# Altium schematic symbol library pyptec-Schlib_jp.SchLib: 316 symbols (part 4 of 7)
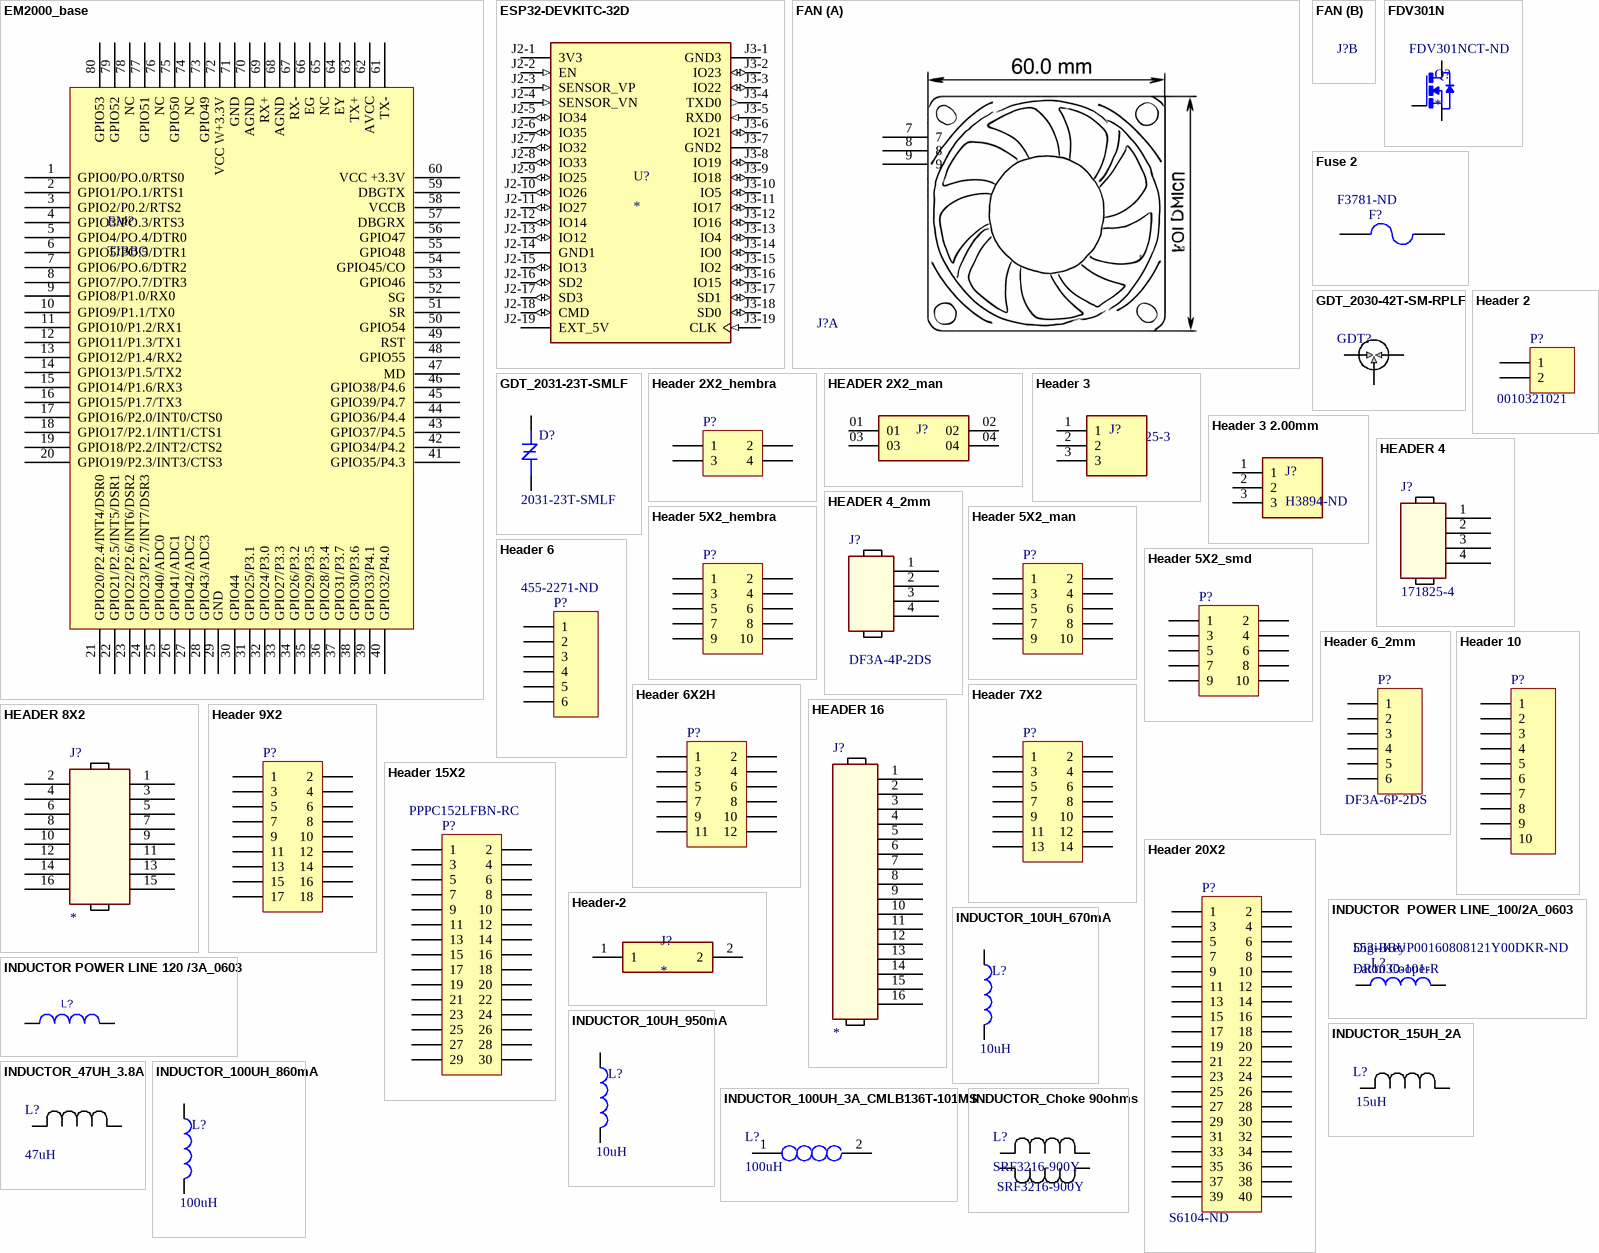
[diagram p13: symbols EM2000_base to INDUCTOR_Choke 90ohms]

## INDUCTOR_47UH_3.8A
designator L?, comment value 47uH  (hidden comment: SRR1210-470M)
47 µH Shielded Drum Core, Wirewound Inductor 3.8 A 72mOhm Max Nonstandard; Digi_Key_Part_Number: SRR1210-470MCT-ND; ComponentLink1Description: SRR1210-470M; ComponentLink1URL: https://www.digikey.com/en/products/detail/bourns-inc/SRR1210-470M/2562359; Link: https://www.digikey.com/en/products/detail/bourns-inc/SRR1210-470M/2562359; Price: 1,21; JLCPCB Part: C2041371
footprint IND_BOURNS_SRR1210
pins: 1, 2

## INDUCTOR_100UH_3A_CMLB136T-101MS
designator L?, comment value 100uH  (hidden comment: CMLB136T-101MS)
100 µH Shielded Inductor 3 A 198mOhm Max Nonstandard; Digi_Key_Part_Number: 2037-CMLB136T-101MSCT-ND; ComponentLink1Description: FIXED IND 100UH 3A 198 OHM SMD; ComponentLink1URL: https://www.digikey.com/en/products/detail/delta-electronics-cyntec/CMLB136T-101MS/9761303; Link: https://www.digikey.com/en/products/detail/delta-electronics-cyntec/CMLB136T-101MS/9761303; Price: 2,10; LCSC Part: C408533; Mouser Part: 673-BMRF131360101MA1; Price JLCPCB: 0,58
footprint CMLB136T101MS
pins: 1, 2

## INDUCTOR_100UH_860mA
designator L?, comment value 100uH  (hidden comment: 283-DR1030-101-RCT-ND)
100 µH Shielded Drum Core, Wirewound Inductor 860 mA 450mOhm Max Nonstandard; Digi_Key_Part_Number: 308-1969-1-ND; Link: https://www.digikey.com/en/products/detail/sumida-america-inc/CDRH3D14-HPNP-100NC/3946967; ComponentLink1Description: FIXED IND 100UH 860MA 450MOHM SM; ComponentLink1URL: https://www.digikey.com/en/products/detail/sumida-america-inc/CDRH3D14-HPNP-100NC/3946967; Price: 0,56; LCSC Part: C2453945; Mouser Part: 851-CDRH3D14PNP100NC
footprint bobina
pins: 1, 2

## INDUCTOR_Choke 90ohms
designator L?, comment SRF3216-900Y
2 Line Common Mode Choke Surface Mount 90 Ohms @ 100 MHz 400mA DCR 300mOhm; Digi_Key_Part_Number: SRF3216-900YCT-ND; Link: https://www.digikey.com/en/products/detail/bourns-inc/SRF3216-900Y/1969857; ComponentLink1Description: SRF3216-900Y; ComponentLink1URL: https://www.digikey.com/en/products/detail/bourns-inc/SRF3216-900Y/1969857; Price: 0.66; Value: SRF3216-900Y
footprint IND_BOURNS_SRF3216-L
pins: 1, 2, 3, 4

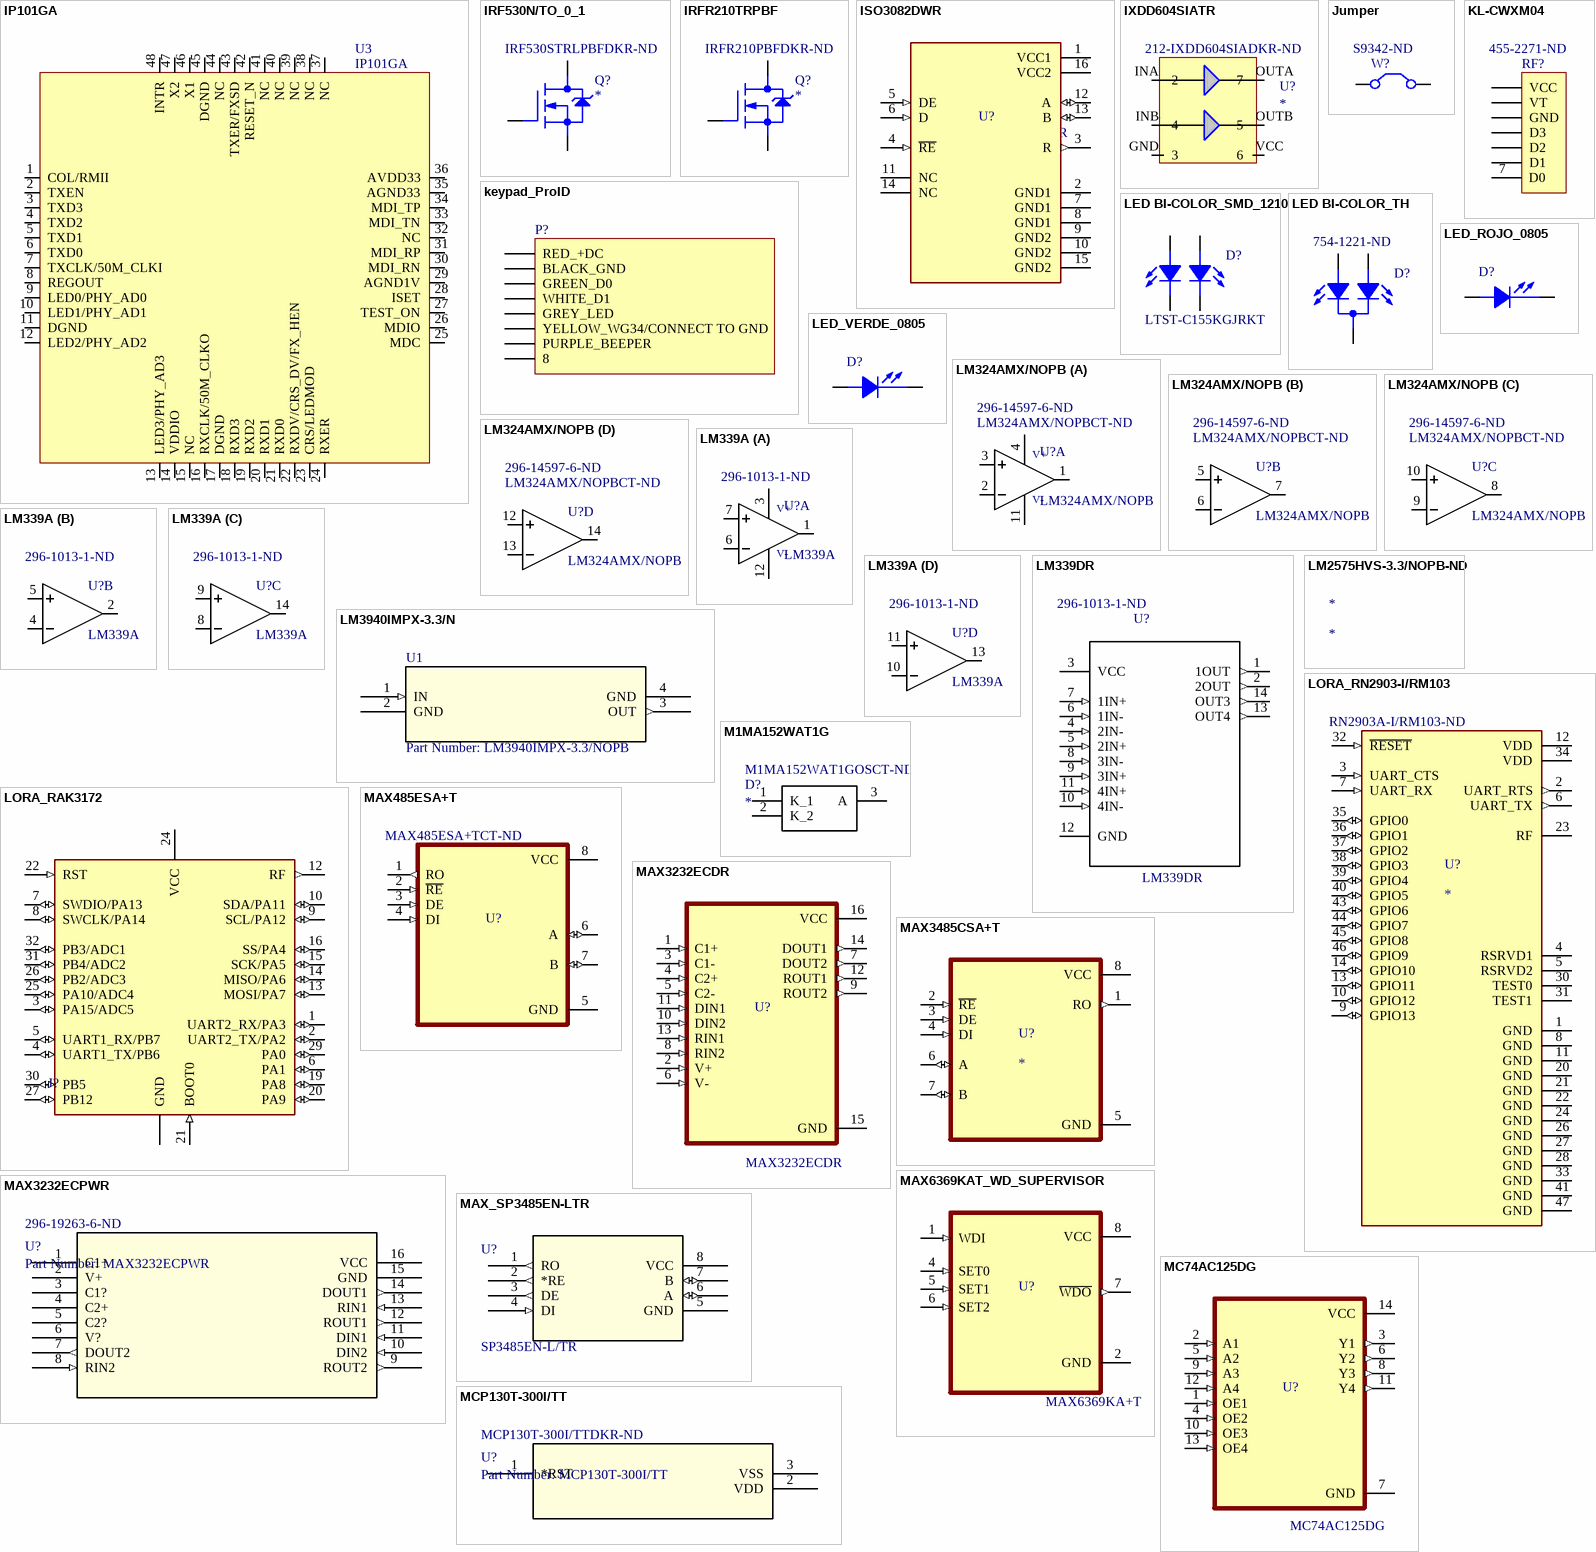
[diagram p5: symbols IP101GA to MCP130T-300I/TT]

## IP101GA
designator U3
Single Port 10/100 MII/RMII/TP/Fiber  Fast Ethernet Transceiver
footprint LQFP48(0.5/9.0)
pins: 1 COL/RMII, 2 TXEN, 3 TXD3, 4 TXD2, 5 TXD1, 6 TXD0, 7 TXCLK/50M_CLKI, 8 REGOUT, 9 LED0/PHY_AD0, 10 LED1/PHY_AD1, 11 DGND, 12 LED2/PHY_AD2, 13 LED3/PHY_AD3, 14 VDDIO, 15 NC, 16 RXCLK/50M_CLKO, 17 DGND, 18 RXD3, 19 RXD2, 20 RXD1, 21 RXD0, 22 RXDV/CRS_DV/FX_HEN, 23 CRS/LEDMOD, 24 RXER, 25 MDC, 26 MDIO, 27 TEST_ON, 28 ISET, 29 AGND1V, 30 MDI_RN, 31 MDI_RP, 32 NC, 33 MDI_TN, 34 MDI_TP, 35 AGND33, 36 AVDD33, 37 NC, 38 NC, 39 NC, 40 NC, 41 NC, 42 RESET_N, 43 TXER/FXSD, 44 NC, 45 DGND, 46 X1, 47 X2, 48 INTR

## IRF530N/TO_0_1
designator Q?  Supplier Part Number 1: IRF530STRLPBFDKR-ND
Canal N Montaje en superficie 100V 14 A (Tc) 3.7W (Ta), 88W (Tc) D2PAK; Manufacturer: Vishay Siliconix; Manufacturer Part Number: IRF530STRLPBF; Rise Time: 34ns; Rds On Max: 160mR; Input Capacitance: 670pF; Nominal Vgs: 2V; Continuous Drain Current (ID): 14A; Gate to Source Voltage (Vgs): 20V; Fall Time: 24ns; Turn-Off Delay Time: 23ns; Turn-On Delay Time: 10ns; Number of Elements: 1; Element Configuration: Single; Supplier 1: Digi-Key; Stock 1: 843; Pricing 1: 1=1.62, 10=1.453, 100=1.0689 (USD); Mount: Surface Mount; Case/Package: TO-263-3; Number of Pins: 3; Weight: 0.068654oz; Min Operating Temperature: -55°C; Max Operating Temperature: 175°C; Packaging: Tape and Reel; Package Quantity: 800; Drain to Source Voltage (Vdss): 100V; Max Power Dissipation: 3.7W; Drain to Source Breakdown Voltage: 100V; Drain to Source Resistance: 160mR; Power Dissipation: 3.7W; Number of Channels: 1; Length: 10.67mm; Height: 4.83mm; Width: 9.65mm; Radiation Hardening: No; REACH SVHC: Unknown; ComponentLink1URL: http://www.vishay.com/docs/91020/sihf530s.pdf?src-supplier=Avnet+Europe; ComponentLink1Description: http://www.vishay.com/docs/91020/sihf530s.pdf?src-supplier=Avnet+Europe; ComponentLink2URL: http://www.mouser.com/ds/2/427/sihf530s-896361.pdf?src-supplier=Mouser; ComponentLink2Description: http://www.mouser.com/ds/2/427/sihf530s-896361.pdf?src-supplier=Mouser; ComponentLink3URL: http://www.vishay.com/docs/91020/sihf530s.pdf?src-supplier=Digi-Key; ComponentLink3Description: http://www.vishay.com/docs/91020/sihf530s.pdf?src-supplier=Digi-Key
footprint TO263 - mosfet
pins: 1, 2, 3

## IRFR210TRPBF
designator Q?  Supplier Part Number 1: IRFR210PBFDKR-ND
Canal N Montaje en superficie 200V 2.6 A (Tc) 2.5W (Ta), 25W (Tc) D-Pak; Manufacturer: Vishay; Manufacturer Part Number: IRFR210TRPBF; Rds On Max: 1.5R; Input Capacitance: 140pF; Rise Time: 17ns; Continuous Drain Current (ID): 2.6A; Gate to Source Voltage (Vgs): 20V; Fall Time: 8.9ns; Turn-Off Delay Time: 14ns; Turn-On Delay Time: 8.2ns; Number of Elements: 1; Element Configuration: Single; Supplier 1: Digi-Key; Stock 1: 584; Pricing 1: 1=0.91, 10=0.81, 100=0.5769, 500=0.48896, 1000=0.39832 (USD); Mount: Surface Mount; Case/Package: DPAK; Number of Pins: 3; Weight: 0.050717oz; Contact Plating: Tin,Matte; Min Operating Temperature: -55°C; Max Operating Temperature: 150°C; Package Quantity: 1; Packaging: Tape and Reel; Drain to Source Voltage (Vdss): 200V; Max Power Dissipation: 2.5W; Drain to Source Breakdown Voltage: 200V; Drain to Source Resistance: 1.5R; Power Dissipation: 2.5W; Number of Channels: 1; On-State Resistance: 1.5R; Length: 6.73mm; Height: 2.39mm; Width: 6.22mm; Radiation Hardening: No; Lead Free: Lead Free; ComponentLink1URL: http://www.mouser.com/ds/2/427/sihfr210-61757.pdf?src-supplier=Mouser; ComponentLink1Description: http://www.mouser.com/ds/2/427/sihfr210-61757.pdf?src-supplier=Mouser; ComponentLink2URL: http://www.vishay.com/docs/91268/sihfr210.pdf?src-supplier=Digi-Key; ComponentLink2Description: http://www.vishay.com/docs/91268/sihfr210.pdf?src-supplier=Digi-Key; ComponentLink3URL: http://www.vishay.com/docs/91268/sihfr210.pdf?src-supplier=Future+Electronics; ComponentLink3Description: http://www.vishay.com/docs/91268/sihfr210.pdf?src-supplier=Future+Electronics
footprint TO252AB/DPAK
pins: 1, 2, 3

## ISO3082DWR
designator U?
200-Kbps, half-duplex, 2.5-kVrms isolated RS-485 & RS-422 transceiver; Digi_Key_Part_Number: 296-37891-1-ND; MF: Texas Instruments; Purchase-URL: https://pricing.snapeda.com/search/part/ISO3082DWR/?ref=eda; Package: SOIC-16 Texas Instruments; SnapEDA_Link: https://www.snapeda.com/parts/ISO3082DWR/Texas+Instruments/view-part/?ref=snap; Check_prices: https://www.snapeda.com/parts/ISO3082DWR/Texas+Instruments/view-part/?ref=eda; Price: 4,63; MP: ISO3082DWR; Availability: In Stock; Supplier 1: Digi-Key; Supplier 2: Digi-Key; Link: https://www.digikey.com/es/products/detail/ISO3082DWR/296-37891-6-ND/4899999?utm_campaign=buynow&utm_medium=aggregator&curr=usd&utm_source=octopart; ComponentLink1Description: ISO RS485/422 0.2MBPS 2.5KVRMS; ComponentLink1URL: https://www.digikey.com/es/products/detail/texas-instruments/ISO3082DWR/1898638; Supplier Part Number 2: 296-37891-1-ND; Supplier Part Number 1: 296-37891-6-ND; Value: ISO3082DWR
footprint SOIC127P1030X265-16N
pins: 1 VCC1 (power), 2 GND1 (power), 3 R (out), 4 ~{RE} (in), 5 DE (in), 6 D (in), 7 GND1 (power), 8 GND1 (power), 9 GND2 (power), 10 GND2 (power), 11 NC, 12 A (io), 13 B (io), 14 NC, 15 GND2 (power), 16 VCC2 (power)

## IXDD604SIATR
designator U?  Supplier Part Number 1: 212-IXDD604SIADKR-ND
Nivel bajo Gate Driver IC No inversor 8-SOIC; Manufacturer: Ixys Clare; Manufacturer Part Number: IXDD604SIATR; Rise Time: 9ns; Max Supply Voltage: 35V; Min Supply Voltage: 4.5V; Output Current: 4A; Number of Outputs: 2; Propagation Delay: 50ns; Fall Time: 8ns; Operating Supply Current: 10uA; Supplier 1: Digi-Key; Stock 1: 2000; Pricing 1: 1=1.76, 10=1.583, 25=1.4936, 100=1.1948, 250=1.04544, 500=1.01558, 1000=0.80649 (USD); Mount: Surface Mount; Case/Package: SOIC; Number of Pins: 8; Weight: 0.019048oz; Min Operating Temperature: -40°C; Max Operating Temperature: 125°C; Packaging: Tape and Reel; Package Quantity: 2000; Max Output Current: 4A; Number of Drivers: 2; Lead Free: Lead Free; ComponentLink1URL: http://www.ixysic.com/home/pdfs.nsf/www/IXD_604.pdf/file/IXD_604.pdf?src-supplier=Digi-Key; ComponentLink1Description: http://www.ixysic.com/home/pdfs.nsf/www/IXD_604.pdf/file/IXD_604.pdf?src-supplier=Digi-Key
footprint *SOIC127P600X134-8N
pins: GND 3 (power), INA 2, INB 4, OUTA 7, OUTB 5, VCC 6 (power)

## Jumper
designator W?, comment S9342-ND
2 (1 x 2) Conector de derivación de posiciones Parte superior abierta 0.100" (2.54mm) Oro; Published: 24-Mar-1999; LatestRevisionDate: 17-Jul-2002; LatestRevisionNote: Re-released for DXP Platform.; PackageReference: RAD-0.2; Publisher: Altium Limited; PackageDescription: Radial Cap, Thru-Hole; 2 Leads; 0.2 in Pin Spacing; Supplier 1: Digi-Key; Link: https://www.digikey.com/es/products/detail/SPC02SXCN-RC/S9342-ND/2618267?utm_campaign=buynow&utm_medium=aggregator&curr=usd&utm_source=octopart; Digi_Key_Part_Number: S9342-ND; ComponentLink1Description: CONN JUMPER SHORTING .100" GOLD; ComponentLink1URL: https://www.digikey.com/es/products/detail/sullins-connector-solutions/SPC02SXCN-RC/2618267?s=N4IgTCBcDaIMoE4DMAWMBaAcgERAXQF8g; Supplier Part Number 1: S9342-ND
footprint RAD-0.2 (Radial Cap, Thru-Hole; 2 Leads; 0.2 in Pin Spacing)
pins: 1 C1, 2 C2

## keypad_ProID
designator P?
Header, 8-Pin; LatestRevisionDate: 17-Jul-2002; LatestRevisionNote: Re-released for DXP Platform.; Publisher: Altium Limited
footprint keypad (Connector; Header; 8 Position)
pins: 1 RED_+DC, 2 BLACK_GND, 3 GREEN_D0, 4 WHITE_D1, 5 GREY_LED, 6 YELLOW_WG34/CONNECT TO GND, 7 PURPLE_BEEPER, 8

## KL-CWXM04
designator RF?  Supplier Part Number 1: 455-2271-ND
RF super heterodyne 315mhz rf wireless transmitter and receiver KL-CWXM04-Pin; Manufacturer: JST; Manufacturer Part Number: B6BXHA(LF)(SN); Contact Resistance: 20mR; Current Rating: 3A; Voltage Rating (AC): 250V; Number of Positions: 6; Insulation Resistance: 1GR; Connector Type: Male Pin; Wire/Cable Gauge: 22AWG; Pitch: 2.5mm; LatestRevisionDate: 17-Jul-2002; LatestRevisionNote: Re-released for DXP Platform.; Publisher: Altium Limited; Supplier 1: Digi-Key; Stock 1: 28709; Pricing 1: 1=0.27, 10=0.258, 100=0.1808, 500=0.15494, 1000=0.12912, 5000=0.11068, 10000=0.1033 (USD); Mount: Through Hole; Contact Plating: Tin,Lead,Copper; Contact Material: Brass; Color: Natural; Housing Color: White; Housing Material: Polyamide; Min Operating Temperature: -25°C; Max Operating Temperature: 85°C; Package Quantity: 500; Packaging: Bulk; Termination: Press-Fit; Number of Rows: 1; Voltage Rating: 250V; Max Current Rating: 3A; Number of Contacts: 6; Max Voltage Rating (AC): 250V; Max Voltage Rating (DC): 250V; Orientation: Straight; Length: 17.4mm; Depth: 5.75mm; Lead Pitch: 2.5mm; REACH SVHC: No SVHC; Lead Free: Lead Free; ComponentLink1URL: https://www.verical.com/server-webapp/html/getDatasheet?partID=424647&src-supplier=Verical; ComponentLink1Description: https://www.verical.com/server-webapp/html/getDatasheet?partID=424647&src-supplier=Verical; ComponentLink2URL: http://www.rapidonline.com/pdf/523653.pdf?src-supplier=Rapid+Electronics; ComponentLink2Description: http://www.rapidonline.com/pdf/523653.pdf?src-supplier=Rapid+Electronics; ComponentLink3URL: https://www.verical.com/server-webapp/html/getDatasheet?partID=641012&src-supplier=Verical; ComponentLink3Description: https://www.verical.com/server-webapp/html/getDatasheet?partID=641012&src-supplier=Verical; ComponentLink4URL: http://www1.futureelectronics.com/doc/JST/B6B-XH-A(LF)(SN).pdf?src-supplier=Future+Electronics; ComponentLink4Description: http://www1.futureelectronics.com/doc/JST/B6B-XH-A(LF)(SN).pdf?src-supplier=Future+Electronics; ComponentLink5URL: http://www.jst-mfg.com/product/pdf/eng/eXH.pdf?src-supplier=Digi-Key; ComponentLink5Description: http://www.jst-mfg.com/product/pdf/eng/eXH.pdf?src-supplier=Digi-Key
footprint HDR1X7 (Connector; Header; 6 Position)
pins: 1 VCC, 2 VT, 3 GND, 4 D3, 5 D2, 6 D1, 7 D0

## LED BI-COLOR_SMD_1210
designator D?, comment value LTST-C155KGJRKT  (hidden comment: 160-1409-1-ND)
Verde, rojo Verde de 571nm, rojo de 631nm Indicación led: discreta Verde de 2V, rojo de 2V 1210 (3225 métrico); Manufacturer: Kingbright; Manufacturer Part Number: WP3VEGW; Color: Green,Red; Lens Color: White; Luminous Intensity: 40mcd; Viewing Angle: 60°; Lens Style: Dome,Diffused,Round; Dominant Wavelength: 625nm; Test Current: 20mA; Mount: Through Hole; Case/Package: Radial; Number of Pins: 1; Min Operating Temperature: -40°C; Max Operating Temperature: 85°C; Package Quantity: 500; Packaging: Bulk; Forward Voltage: 2V; Illumination Color: Green,Red; Height: 5mm; Width: 4mm; Lead Free: Lead Free; Supplier 1: Digi-Key; ComponentLink2Description: LED GREEN/RED CLEAR CHIP SMD; ComponentLink2URL: https://www.digikey.com/es/products/detail/liteon/LTST-C155KGJRKT/386767?s=N4IgTCBcDaIIwDYAMBaOAWJBONKByAIiALoC%2BQA; Digi_Key_Part_Number: 160-1409-1-ND; Link: https://www.digikey.com/es/products/detail/liteon/LTST-C155KGJRKT/386767?s=N4IgTCBcDaIIwDYAMBaOAWJBONKByAIiALoC%2BQA; Supplier Part Number 1: 160-1409-6-ND
footprint LED_LTST-C155GEKT
pins: 1, 2, 3, 4

## LED BI-COLOR_TH
designator D?, comment 754-1221-ND
Verde, rojo Verde de 568nm, rojo de 617nm Indicación led: discreta Verde de 2.2V, rojo de 2V Radial - 3 conductores; Manufacturer: Kingbright; Manufacturer Part Number: WP3VEGW; Color: Green,Red; Lens Color: White; Luminous Intensity: 40mcd; Viewing Angle: 60°; Lens Style: Dome,Diffused,Round; Dominant Wavelength: 625nm; Test Current: 20mA; Supplier 1: Digi-Key; Stock 1: 32286; Pricing 1: 1=0.58, 10=0.417, 100=0.272, 500=0.1955, 1000=0.153, 2500=0.14025, 5000=0.1275, 10000=0.119, 25000=0.11475 (USD); Mount: Through Hole; Case/Package: Radial; Number of Pins: 1; Min Operating Temperature: -40°C; Max Operating Temperature: 85°C; Package Quantity: 500; Packaging: Bulk; Forward Voltage: 2V; Illumination Color: Green,Red; Height: 5mm; Width: 4mm; Lead Free: Lead Free; ComponentLink1Description: LED GREEN/RED DIFFUSED T-1 T/H; ComponentLink1URL: https://www.digikey.com/es/products/detail/kingbright/WP3VEGW/1747620?s=N4IgTCBcDaIOwFYAsBaAjGMaUDkAiIAugL5A; Digi_Key_Part_Number: 754-1221-ND; Link: https://www.digikey.com/es/products/detail/kingbright/WP3VEGW/1747620?s=N4IgTCBcDaIOwFYAsBaAjGMaUDkAiIAugL5A; Supplier Part Number 1: 754-1221-ND
footprint LED BI-COLOUR
pins: 1, 2, 3

## LED_ROJO_0805
designator D?, comment LTST-C171KRKT  (value not drawn)
Rojo 631nm Indicación led: discreta 2V 0805 (2012 métrico); Digi_Key_Part_Number: 160-1427-1-ND; Value: LED RED; Link: https://www.digikey.com/es/products/detail/liteon/LTST-C171KRKT/386801; Price: 0,15; LCSC Part: C284871; Mouser Part: 859-LTST-C171KRKT; Price JLCPCB: 0,02; ComponentLink1Description: LED RED CLEAR SMD 0805; ComponentLink1URL: https://www.digikey.com/es/products/detail/liteon/LTST-C171KRKT/386801
footprint SM/D_0805_21_led
pins: 1, 2

## LED_VERDE_0805
designator D?, comment LTST-C171GKT  (value not drawn)
Verde 569nm Indicación led: discreta 2.1V 0805 (2012 métrico); Digi_Key_Part_Number: 160-1423-1-ND; Value: LED GREEN; Link: https://www.digikey.com/es/products/detail/liteon/LTST-C171GKT/386793; Price: 0,36; LCSC Part: C913075; Mouser Part: 859-LTST-C171GKT; Price JLCPCB: 0,02; ComponentLink1Description: LED GREEN CLEAR CHIP SMD 0805; ComponentLink1URL: https://www.digikey.com/es/products/detail/liteon/LTST-C171GKT/386793
footprint SM/D_0805_21_led - VERDE
pins: 1, 2

## LM324AMX/NOPB
designator U?  Supplier Part Number 1: LM324AMX/NOPBCT-ND  Supplier Part Number 2: 296-14597-6-ND
Low Power Quad Operational Amplifier 14-SOIC 0 to 70; Manufacturer: TI National Semiconductor; MF: Texas Instruments; Min Dual Supply Voltage: 1.5V; Slew Rate: 0.5V/µs; Min Supply Voltage: 3V; Max Supply Voltage: 32V; Max Dual Supply Voltage: 16V; Voltage Gain: 100dB; Max Power Dissipation: 800mW; Unity Gain Bandwidth Product: 1MHz; Common Mode Rejection Ratio: 65dB; Number of Channels: 4; Output Current: 40mA; Input Offset Voltage (Vos): 3mV; Input Bias Current: 100nA; Max Supply Current: 1.2mA; Nominal Supply Current: 1.5mA; Operating Supply Current: 1.4mA; Output Current per Channel: 60mA; Digi-Key_Purchase_URL: https://www.digikey.com/product-detail/en/texas-instruments/LM324AMX-NOPB/LM324AMX-NOPBCT-ND/1010531?utm_source=snapeda&utm_medium=aggregator&utm_campaign=symbol; Digi-Key_Part_Number: LM324AMX/NOPBCT-ND; MP: LM324AMX/NOPB; Package: SOIC-14 Texas Instruments; SnapEDA_Link: https://www.snapeda.com/parts/LM324AMX/NOPB/Texas%20Instruments/view-part/?ref=snap; Value: *; Supplier 1: Digi-Key; Manufacturer Part Number: LM324AMX/NOPB; Stock 1: 86609; Pricing 1: 1=1.05, 10=0.936, 100=0.7297, 500=0.60276, 1000=0.47586 (USD); Mount: Surface Mount; Case/Package: SOIC; Number of Pins: 14; Min Operating Temperature: 0°C; Max Operating Temperature: 70°C; Packaging: Tape and Reel; Operating Supply Voltage: 16V; Dual Supply Voltage: 3V; Bandwidth: 1MHz; Gain Bandwidth Product: 1MHz; Number of Amplifiers: 4; Power Supply Rejection Ratio (PSRR): 65dB; Number of Elements: 4; Power Dissipation: 800mW; Package Quantity: 2500; Number of Circuits: 4; Length: 8.64mm; Height: 1.45mm; Width: 3.91mm; Radiation Hardening: No; REACH SVHC: No SVHC; Lead Free: Lead Free; ComponentLink1URL: http://www.jameco.com/Jameco/Products/ProdDS/1267647.pdf?src-supplier=Jameco; ComponentLink1Description: http://www.jameco.com/Jameco/Products/ProdDS/1267647.pdf?src-supplier=Jameco; ComponentLink2URL: http://www.ti.com/lit/ds/symlink/lm124-n.pdf?src-supplier=Avnet; ComponentLink2Description: http://www.ti.com/lit/ds/symlink/lm124-n.pdf?src-supplier=Avnet; ComponentLink3URL: http://www.ti.com/lit/ds/symlink/lm124-n.pdf?src-supplier=Digi-Key; ComponentLink3Description: http://www.ti.com/lit/ds/symlink/lm124-n.pdf?src-supplier=Digi-Key; ComponentLink4URL: http://www.farnell.com/datasheets/2001690.pdf?src-supplier=Farnell; ComponentLink4Description: http://www.farnell.com/datasheets/2001690.pdf?src-supplier=Farnell; Supplier 2: Digi-Key; Stock 2: 13590; Pricing 2: 1=0.4, 10=0.302, 100=0.1483, 500=0.12854, 1000=0.09888 (USD); Contact Plating: Gold; ComponentLink5URL: http://www.ti.com/general/docs/lit/getliterature.tsp?genericPartNumber=LM124&&fileType=pdf&src-supplier=Avnet; ComponentLink5Description: http://www.ti.com/general/docs/lit/getliterature.tsp?genericPartNumber=LM124&&fileType=pdf&src-supplier=Avnet; ComponentLink6URL: http://www.farnell.com/datasheets/1840878.pdf?src-supplier=Element14; ComponentLink6Description: http://www.farnell.com/datasheets/1840878.pdf?src-supplier=Element14; ComponentLink7URL: http://www.farnell.com/datasheets/1877076.pdf?src-supplier=Element14; ComponentLink7Description: http://www.farnell.com/datasheets/1877076.pdf?src-supplier=Element14; ComponentLink8URL: http://www.ti.com/lit/ds/symlink/lm224.pdf?src-supplier=Digi-Key; ComponentLink8Description: http://www.ti.com/lit/ds/symlink/lm224.pdf?src-supplier=Digi-Key; ComponentLink9URL: http://www.jameco.com/Jameco/Products/ProdDS/902590.pdf?src-supplier=Jameco; ComponentLink9Description: http://www.jameco.com/Jameco/Products/ProdDS/902590.pdf?src-supplier=Jameco; ComponentLink10URL: http://www.farnell.com/datasheets/1768103.pdf?src-supplier=Farnell; ComponentLink10Description: http://www.farnell.com/datasheets/1768103.pdf?src-supplier=Farnell
footprint SOIC127P600X175-14N
part A pins: 1, 2, 3, 4 (power), 11 (power)
part B pins: 5, 6, 7
part C pins: 8, 9, 10
part D pins: 12, 13, 14
part A text: V+; V-

## LM339A
designator U?  Supplier Part Number 1: 296-1013-1-ND
Low Power Quad Operational Amplifier 14-SOIC 0 to 70; Manufacturer Part Number: LM339DR; MF: Texas Instruments; MP: LM324AMX/NOPB; Voltage Gain: 106.02dB; Min Supply Voltage: 2V; Max Supply Voltage: 30V; Min Dual Supply Voltage: 1V; Max Dual Supply Voltage: 15V; Nominal Supply Current: 2mA; Number of Elements: 4; Max Supply Current: 500uA; Input Bias Current: 250nA; Output Current per Channel: 6mA; Input Offset Voltage (Vos): 5mV; Response Time: 1.3us; Output Current: 20mA; Quiescent Current: 2.5mA; Output Type: TTL; Digi-Key_Purchase_URL: https://www.digikey.com/product-detail/en/texas-instruments/LM324AMX-NOPB/LM324AMX-NOPBCT-ND/1010531?utm_source=snapeda&utm_medium=aggregator&utm_campaign=symbol; Digi-Key_Part_Number: LM324AMX/NOPBCT-ND; Package: SOIC-14 Texas Instruments; SnapEDA_Link: https://www.snapeda.com/parts/LM324AMX/NOPB/Texas%20Instruments/view-part/?ref=snap; Value: *; Supplier 1: Digi-Key; Manufacturer: Texas Instruments; Stock 1: 19352; Pricing 1: 1=0.39, 10=0.295, 100=0.1452, 500=0.12586, 1000=0.09682 (USD); Mount: Surface Mount; Case/Package: SOIC; Number of Pins: 14; Weight: 0.004318oz; Contact Plating: Gold; Min Operating Temperature: 0°C; Max Operating Temperature: 70°C; Packaging: Tape and Reel; Package Quantity: 2500; Number of Channels: 4; Max Input Current: 250nA; Radiation Hardening: No; Lead Free: Lead Free; REACH SVHC: No SVHC; ComponentLink1URL: http://www.ti.com/lit/ds/symlink/lm139a.pdf?src-supplier=Avnet; ComponentLink1Description: http://www.ti.com/lit/ds/symlink/lm139a.pdf?src-supplier=Avnet; ComponentLink2URL: https://www.verical.com/server-webapp/html/getDatasheet?partID=242797&src-supplier=Verical; ComponentLink2Description: https://www.verical.com/server-webapp/html/getDatasheet?partID=242797&src-supplier=Verical; ComponentLink3URL: http://www.farnell.com/datasheets/1874704.pdf?src-supplier=Element14; ComponentLink3Description: http://www.farnell.com/datasheets/1874704.pdf?src-supplier=Element14; ComponentLink4URL: http://www.ti.com/general/docs/lit/getliterature.tsp?genericPartNumber=LM339&&fileType=pdf&src-supplier=Element14; ComponentLink4Description: http://www.ti.com/general/docs/lit/getliterature.tsp?genericPartNumber=LM339&&fileType=pdf&src-supplier=Element14; ComponentLink5URL: http://www.ti.com/lit/ds/symlink/lm139a.pdf?src-supplier=Digi-Key; ComponentLink5Description: http://www.ti.com/lit/ds/symlink/lm139a.pdf?src-supplier=Digi-Key; ComponentLink6URL: http://www.jameco.com/Jameco/Products/ProdDS/902741.pdf?src-supplier=Jameco; ComponentLink6Description: http://www.jameco.com/Jameco/Products/ProdDS/902741.pdf?src-supplier=Jameco; ComponentLink7URL: http://www.ti.com/general/docs/lit/getliterature.tsp?genericPartNumber=LM339&amp;&amp;fileType=pdf&src-supplier=Avnet+Asia; ComponentLink7Description: http://www.ti.com/general/docs/lit/getliterature.tsp?genericPartNumber=LM339&amp;&amp;fileType=pdf&src-supplier=Avnet+Asia; ComponentLink8URL: http://www.produktinfo.conrad.com/datenblaetter/1000000-1099999/001072944-da-01-en-IC_QUAD_DIFF_COMP_LM339DR_SOIC_14_TID.pdf?src-supplier=Conrad; ComponentLink8Description: http://www.produktinfo.conrad.com/datenblaetter/1000000-1099999/001072944-da-01-en-IC_QUAD_DIFF_COMP_LM339DR_SOIC_14_TID.pdf?src-supplier=Conrad
footprint SOIC127P600X175-14N
part A pins: 1, 3 (power), 6, 7, 12 (power)
part B pins: 2, 4, 5
part C pins: 8, 9, 14
part D pins: 10, 11, 13
part A text: V+; V-

## LM339DR
designator U?  Supplier Part Number 1: 296-1013-1-ND
Comparator; differential; 2Ã·36VDC; Channels: 4; SMD; SO1; MF: Texas Instruments; Voltage Gain: 106.02dB; Min Supply Voltage: 2V; Max Supply Voltage: 30V; Min Dual Supply Voltage: 1V; Max Dual Supply Voltage: 15V; Nominal Supply Current: 2mA; Number of Elements: 4; Max Supply Current: 500uA; Input Bias Current: 250nA; Output Current per Channel: 6mA; Input Offset Voltage (Vos): 5mV; Response Time: 1.3us; Output Current: 20mA; Quiescent Current: 2.5mA; Output Type: TTL; Digi-Key_Part_Number: LM339DRRS-ND; Digi-Key_Purchase_URL: https://www.digikey.com/product-detail/en/rohm-semiconductor/LM339DR/LM339DRRS-ND/2336957?utm_source=snapeda&utm_medium=aggregator&utm_campaign=symbol; Package: SOIC-14 Texas Instruments; MP: LM339DR; SnapEDA_Link: https://www.snapeda.com/parts/LM339DR/Texas%20Instruments/view-part/?ref=snap; Value: *; Supplier 1: Digi-Key; Manufacturer: Texas Instruments; Manufacturer Part Number: LM339DR; Stock 1: 19352; Pricing 1: 1=0.39, 10=0.295, 100=0.1452, 500=0.12586, 1000=0.09682 (USD); Mount: Surface Mount; Case/Package: SOIC; Number of Pins: 14; Weight: 0.004318oz; Contact Plating: Gold; Min Operating Temperature: 0°C; Max Operating Temperature: 70°C; Packaging: Tape and Reel; Package Quantity: 2500; Number of Channels: 4; Max Input Current: 250nA; Radiation Hardening: No; Lead Free: Lead Free; REACH SVHC: No SVHC; ComponentLink1URL: http://www.ti.com/lit/ds/symlink/lm139a.pdf?src-supplier=Avnet; ComponentLink1Description: http://www.ti.com/lit/ds/symlink/lm139a.pdf?src-supplier=Avnet; ComponentLink2URL: https://www.verical.com/server-webapp/html/getDatasheet?partID=242797&src-supplier=Verical; ComponentLink2Description: https://www.verical.com/server-webapp/html/getDatasheet?partID=242797&src-supplier=Verical; ComponentLink3URL: http://www.farnell.com/datasheets/1874704.pdf?src-supplier=Element14; ComponentLink3Description: http://www.farnell.com/datasheets/1874704.pdf?src-supplier=Element14; ComponentLink4URL: http://www.ti.com/general/docs/lit/getliterature.tsp?genericPartNumber=LM339&&fileType=pdf&src-supplier=Element14; ComponentLink4Description: http://www.ti.com/general/docs/lit/getliterature.tsp?genericPartNumber=LM339&&fileType=pdf&src-supplier=Element14; ComponentLink5URL: http://www.ti.com/lit/ds/symlink/lm139a.pdf?src-supplier=Digi-Key; ComponentLink5Description: http://www.ti.com/lit/ds/symlink/lm139a.pdf?src-supplier=Digi-Key; ComponentLink6URL: http://www.jameco.com/Jameco/Products/ProdDS/902741.pdf?src-supplier=Jameco; ComponentLink6Description: http://www.jameco.com/Jameco/Products/ProdDS/902741.pdf?src-supplier=Jameco; ComponentLink7URL: http://www.ti.com/general/docs/lit/getliterature.tsp?genericPartNumber=LM339&amp;&amp;fileType=pdf&src-supplier=Avnet+Asia; ComponentLink7Description: http://www.ti.com/general/docs/lit/getliterature.tsp?genericPartNumber=LM339&amp;&amp;fileType=pdf&src-supplier=Avnet+Asia; ComponentLink8URL: http://www.produktinfo.conrad.com/datenblaetter/1000000-1099999/001072944-da-01-en-IC_QUAD_DIFF_COMP_LM339DR_SOIC_14_TID.pdf?src-supplier=Conrad; ComponentLink8Description: http://www.produktinfo.conrad.com/datenblaetter/1000000-1099999/001072944-da-01-en-IC_QUAD_DIFF_COMP_LM339DR_SOIC_14_TID.pdf?src-supplier=Conrad
footprint SOIC127P600X175-14N
pins: 1 1OUT (out), 2 2OUT (out), 3 VCC (power), 4 2IN- (in), 5 2IN+ (in), 6 1IN- (in), 7 1IN+ (in), 8 3IN- (in), 9 3IN+ (in), 10 4IN- (in), 11 4IN+ (in), 12 GND, 13 OUT4 (out), 14 OUT3 (out)

## LM2575HVS-3.3/NOPB-ND
designator *

## LM3940IMPX-3.3/N
designator U1, comment Part Number: LM3940IMPX-3.3/NOPB
No Description Available; Vendor: Texas Instruments; Built_By: EMA_UL_Team; Manufacturer_Part_Number: LM3940IMPX-3.3/NOPB; Copyright: Copyright (C) 2018 Accelerated Designs. All rights reserved; RefDes: RefDes; Type: DEV; Value: Value
footprint MP04A
footprint MP04A-M
pins: 1 IN (in), 2 GND, 3 OUT (out), 4 GND

## LORA_RAK3172
designator J?, comment 4735-RAK3172-9-SM-NICT-ND  (value not drawn)
RAK3172 is a low-power long-range transceiver module based on the STM32WLE5CC chip. It provides an easy-to-use, small-size, low-power solution for long range wireless data applications; MF: Shenzhen RAKwireless Technology Co.,Ltd.; Value: RAK3172-9-SM-NI; SnapEDA_Link: https://www.snapeda.com/parts/RAK3172/Shenzhen+RAKwireless+Technology+Co.%252CLtd./view-part/?ref=snap; Availability: Not in stock; Price: None; Package: Package; Check_prices: https://www.snapeda.com/parts/RAK3172/Shenzhen+RAKwireless+Technology+Co.%252CLtd./view-part/?ref=eda; MP: RAK3172; Link: https://www.digikey.com/en/products/detail/rakwireless-technology-limited/RAK3172-9-SM-NI/17138034; Digi-Key_Part_Number: 4735-RAK3172-9-SM-NICT-ND; ComponentLink1Description: MODULE FOR LORAWAN RAK3172; ComponentLink1URL: https://www.digikey.com/es/products/detail/rakwireless-technology-limited/RAK3172-9-SM-NI/17138034?s=N4IgTCBcDaICwHYDMBWAtAJQIIGkkEYEw0BONAZQFk0A5ASQGEAVWgERAF0BfIA
footprint RAK3172
pins: 1 UART2_RX/PA3 (io), 2 UART2_TX/PA2 (io), 3 PA15/ADC5 (io), 4 UART1_TX/PB6 (io), 5 UART1_RX/PB7 (io), 6 PA1 (io), 7 SWDIO/PA13 (io), 8 SWCLK/PA14 (io), 9 SCL/PA12 (io), 10 SDA/PA11 (io), 11 GND (power), 12 RF (out), 13 MOSI/PA7 (io), 14 MISO/PA6 (io), 15 SCK/PA5 (io), 16 SS/PA4 (io), 17 GND (power), 18 GND (power), 19 PA8 (io), 20 PA9 (io), 21 BOOT0 (in), 22 RST (in), 23 GND (power), 24 VCC (power), 25 PA10/ADC4 (io), 26 PB2/ADC3 (io), 27 PB12 (io), 28 GND (power), 29 PA0 (io), 30 PB5 (io), 31 PB4/ADC2 (io), 32 PB3/ADC1 (io)

## LORA_RN2903-I/RM103
designator U?  Supplier Part Number 1: RN2903A-I/RM103-ND
ISM General < 1GHz LoRa™ Módulos de transceptor RF 902MHz ~ 928MHz Antena no incluida, Castellation Montaje en superficie; MF: Microchip; MP: RN2903-I/RM095; Availability: Unavailable; Price: None; Package: Module Microchip; Value: *; SnapEDA_Link: https://www.snapeda.com/parts/RN2903-I/RM095/Microchip/view-part/465037/?ref=snap; Supplier 1: Digi-Key; Link: https://www.digikey.com/es/products/detail/RN2903A-I-RM103/RN2903A-I-RM103-ND/8019733?utm_campaign=buynow&utm_medium=aggregator&curr=usd&utm_source=octopart; Digi_Key_Part_Number: RN2903A-I/RM103-ND; ComponentLink1Description: RF TXRX MOD ISM < 1GHZ CAST SMD; ComponentLink1URL: https://www.digikey.com/es/products/detail/RN2903A-I-RM103/RN2903A-I-RM103-ND/8019733?utm_campaign=buynow&utm_medium=aggregator&curr=usd&utm_source=octopart
footprint XCVR_RN2903-I/RM103
pins: 1 GND (power), 2 UART_RTS (out), 3 UART_CTS (in), 4 RSRVD1, 5 RSRVD2, 6 UART_TX (out), 7 UART_RX (in), 8 GND (power), 9 GPIO13 (io), 10 GPIO12 (io), 11 GND (power), 12 VDD (power), 13 GPIO11 (io), 14 GPIO10 (io), 20 GND (power), 21 GND (power), 22 GND (power), 23 RF, 24 GND (power), 26 GND (power), 27 GND (power), 28 GND (power), 30 TEST0, 31 TEST1, 32 ~{RESET} (in), 33 GND (power), 34 VDD (power), 35 GPIO0 (io), 36 GPIO1 (io), 37 GPIO2 (io), 38 GPIO3 (io), 39 GPIO4 (io), 40 GPIO5 (io), 41 GND (power), 43 GPIO6 (io), 44 GPIO7 (io), 45 GPIO8 (io), 46 GPIO9 (io), 47 GND (power)

## M1MA152WAT1G
designator D?  Supplier Part Number 1: M1MA152WAT1GOSCT-ND
Diode; Manufacturer_Name: ON Semiconductor; Manufacturer_Part_Number: M1MA152WAT1G; Datasheet Link: http://www.onsemi.com/pub/Collateral/M1MA151WAT1-D.PDF; Height: 1.3mm; Mouser Part Number: 863-M1MA152WAT1G; Mouser Price/Stock: https://www.mouser.com/Search/Refine.aspx?Keyword=863-M1MA152WAT1G; Arrow Part Number: M1MA152WAT1G; Arrow Price/Stock: https://www.arrow.com/en/products/m1ma152wat1g/on-semiconductor; Supplier 1: Digi-Key
footprint SOT95P275X130-3N
footprint SOT95P275X130-3N
pins: 1 K_1, 2 K_2, 3 A

## MAX485ESA+T
designator U?, comment MAX485ESA+TCT-ND
1/1 Transceiver Half RS422, RS485 8-SOIC; MF: Maxim Integrated; MP: MAX485ESA; SnapEDA_Link: https://www.snapeda.com/parts/MAX485ESA/Maxim+Integrated/view-part/?ref=snap; Purchase-URL: https://pricing.snapeda.com/search/part/MAX485ESA/?ref=eda; Value: *; Package: SOIC-8 Maxim; Price: None; Availability: In Stock; Check_prices: https://www.snapeda.com/parts/MAX485ESA/Maxim+Integrated/view-part/?ref=eda; Supplier 1: Digi-Key; Supplier Part Number 1: MAX485ESA+TCT-ND
footprint SOIC127P600X175-8N
pins: 1 RO (out), 2 ~{RE} (in), 3 DE (in), 4 DI (in), 5 GND (power), 6 A (io), 7 B (io), 8 VCC (power)

## MAX3232ECDR
designator U?, comment value MAX3232ECDR  (hidden comment: 296-19851-1-ND)
3-V to 5.5-V multichannel RS-232 line driver and receiver with 15-kV IEC ESD protection 16-SOIC 0 to 70; Price: 1,06; ComponentLink1Description: MAX3232ECDR; ComponentLink1URL: https://www.digikey.com/es/products/detail/texas-instruments/MAX3232ECDR/1120543; Digi_Key_Part_Number: 296-19851-1-ND; Link: https://www.digikey.com/es/products/detail/texas-instruments/MAX3232ECDR/1120543; LCSC Part: C414613; Mouser Part: 595-MAX3232ECDR; Price JLCPCB: 0,81
footprint SOIC127P600X175-16N
pins: 1 C1+ (in), 2 V+ (in), 3 C1- (in), 4 C2+ (in), 5 C2- (in), 6 V- (in), 7 DOUT2 (out), 8 RIN2 (in), 9 ROUT2 (out), 10 DIN2 (in), 11 DIN1 (in), 12 ROUT1 (out), 13 RIN1 (in), 14 DOUT1 (out), 15 GND (power), 16 VCC (power)

## MAX3232ECPWR
designator U?, comment Part Number: MAX3232ECPWR  Supplier Part Number 1: 296-19263-6-ND
No Description Available; Vendor: Texas Instruments; Built_By: EMA_UL_Team; Number of Receivers: 2; Data Rate: 250Kbps; Max Supply Voltage: 5.5V; Min Supply Voltage: 3V; Nominal Supply Current: 1mA; Logic Function: Transceiver,Receiver; Number of Transceivers: 1; Simplex/Duplex: Full Duplex; ESD Protection: Yes; Supply Type: Single; Operating Supply Voltage: 5V; Manufacturer_Part_Number: MAX3232ECPWR; Copyright: Copyright (C) 2018 Accelerated Designs. All rights reserved; RefDes: RefDes; Type: DEV; Value: Value; Supplier 1: Digi-Key; Manufacturer: Texas Instruments; Manufacturer Part Number: MAX3232ECPWR; Stock 1: 12028; Pricing 1: 1=1.89, 10=1.695, 100=1.2793, 500=1.08738, 1000=0.8635 (USD); Mount: Surface Mount; Case/Package: TSSOP; Number of Pins: 16; Weight: 0.002183oz; Contact Plating: Gold; Min Operating Temperature: -40°C; Max Operating Temperature: 85°C; Packaging: Tape and Reel; Number of Transmitters: 2; Package Quantity: 1; Number of Drivers: 2; Operating Supply Current: 1mA; Max Supply Current: 1mA; Length: 5mm; Height: 1mm; Width: 4.4mm; Radiation Hardening: No; REACH SVHC: No SVHC; Lead Free: Lead Free; ComponentLink1URL: http://www.ti.com/lit/ds/symlink/max3232e.pdf?src-supplier=Digi-Key; ComponentLink1Description: http://www.ti.com/lit/ds/symlink/max3232e.pdf?src-supplier=Digi-Key; ComponentLink2URL: http://www.farnell.com/datasheets/1863621.pdf?src-supplier=Element14; ComponentLink2Description: http://www.farnell.com/datasheets/1863621.pdf?src-supplier=Element14; ComponentLink3URL: http://www.farnell.com/datasheets/1962287.pdf?src-supplier=Element14; ComponentLink3Description: http://www.farnell.com/datasheets/1962287.pdf?src-supplier=Element14; ComponentLink4URL: http://www.ti.com/general/docs/lit/getliterature.tsp?genericPartNumber=MAX3232E&fileType=pdf&src-supplier=Newark; ComponentLink4Description: http://www.ti.com/general/docs/lit/getliterature.tsp?genericPartNumber=MAX3232E&fileType=pdf&src-supplier=Newark
footprint PW16
footprint RS232PW16-M
pins: 1 C1+, 2 V+, 3 C1? (power), 4 C2+, 5 C2?, 6 V? (power), 7 DOUT2 (out), 8 RIN2 (in), 9 ROUT2 (out), 10 DIN2 (in), 11 DIN1 (in), 12 ROUT1 (out), 13 RIN1 (in), 14 DOUT1 (out), 15 GND (power), 16 VCC (power)

## MAX3485CSA+T
designator U?
1/1 Transceiver Half RS422, RS485 8-SOIC; MF: Maxim Integrated; MP: MAX3485CSA+T; Value: *; Package: SOIC-8 Maxim; Digi-Key_Part_Number: MAX3485CSA+CT-ND; Digi-Key_Purchase_URL: https://www.digikey.com/product-detail/en/maxim-integrated/MAX3485CSA-T/MAX3485CSA-CT-ND/5405739?utm_source=snapeda&utm_medium=aggregator&utm_campaign=symbol; SnapEDA_Link: https://www.snapeda.com/parts/MAX3485CSA+T/Maxim%20Integrated/view-part/648590/?ref=snap; ComponentLink1Description: IC TRANSCEIVER HALF 1/1 8SOIC; ComponentLink1URL: https://www.digikey.com/es/products/detail/analog-devices-inc-maxim-integrated/MAX3485CSA-T/1703654; Link: https://www.digikey.com/es/products/detail/analog-devices-inc-maxim-integrated/MAX3485CSA-T/1703654
footprint SOIC127P600X175-8N
pins: 1 RO (out), 2 ~{RE} (in), 3 DE (in), 4 DI (in), 5 GND (power), 6 A (io), 7 B (io), 8 VCC (power)

## MAX6369KAT_WD_SUPERVISOR
designator U?, comment value MAX6369KA+T  (hidden comment: MAX6369KA+TCT-ND)
Supervisor Open Drain or Open Collector 1 Channel SOT-23-8; Price: 6,74; Link: https://www.digikey.com/en/products/detail/analog-devices-inc-maxim-integrated/MAX6369KA-T/948135?s=N4IgTCBcDaILIEEAaA2AzCgnAaQQagBUCAlAWgDkAREAXQF8g; Digi_Key_Part_Number: MAX6369KA+TCT-ND; LCSC Part: C128613; Mouser Part: 700-MAX6369KAT; Price JLCPCB: 0,80; ComponentLink1Description: MAX6369KA+T; ComponentLink1URL: https://www.digikey.com/en/products/detail/analog-devices-inc-maxim-integrated/MAX6369KA-T/948135?s=N4IgTCBcDaILIEEAaA2AzCgnAaQQagBUCAlAWgDkAREAXQF8g
footprint SOT65P280X145-8N
pins: 1 WDI (in), 2 GND (power), 3 NC, 4 SET0 (in), 5 SET1 (in), 6 SET2 (in), 7 ~{WDO} (out), 8 VCC (power)

## MAX_SP3485EN-LTR
designator U?, comment SP3485EN-L/TR
Transceptor 1/1 Mitad RS422, RS485 8-SOIC; Digi_Key_Part_Number: 1016-1817-1-ND; ComponentLink1Description: SP3485EN-L/TR; ComponentLink1URL: https://www.digikey.com/es/products/detail/maxlinear-inc/SP3485EN-L-TR/2471929; Link: https://www.digikey.com/es/products/detail/maxlinear-inc/SP3485EN-L-TR/2471929; Price: 0,87; LCSC Part: C8963; Mouser Part: 701-SP3485EN-L/TR; Price JLCPCB: 0,23; Value: SP3485EN-L/TR
footprint NSOIC-8-M
pins: 1 RO (out), 2 *RE (out), 3 DE (out), 4 DI (in), 5 GND (power), 6 A (io), 7 B (io), 8 VCC (power)

## MC74AC125DG
designator U?
Buffer, Non-Inverting 4 Element 1 Bit per Element 3-State Output 14-SOIC; MF: ON Semiconductor; MP: MC74HC125ADG; Availability: Good; Price: 1,29; Purchase-URL: https://pricing.snapeda.com/search/part/MC74HC125ADG/?ref=eda; Package: SOIC-14 ON Semiconductor; SnapEDA_Link: https://www.snapeda.com/parts/MC74HC125ADG/ON%20Semiconductor/view-part/358662/?ref=snap; ComponentLink1Description: MC74AC125DG; ComponentLink1URL: https://www.digikey.com/es/products/detail/MC74AC125DG/MC74AC125DGOS-ND/1479360?utm_campaign=buynow&utm_medium=aggregator&curr=usd&utm_source=octopart; Link: https://www.digikey.com/es/products/detail/MC74AC125DG/MC74AC125DGOS-ND/1479360?utm_campaign=buynow&utm_medium=aggregator&curr=usd&utm_source=octopart; Digi-Key_Part_Number: MC74AC125DGOS-ND; Value: MC74AC125DG
footprint SOIC127P600X175-14N
pins: 1 OE1 (in), 2 A1 (in), 3 Y1 (out), 4 OE2 (in), 5 A2 (in), 6 Y2 (out), 7 GND (power), 8 Y3 (out), 9 A3 (in), 10 OE3 (in), 11 Y4 (out), 12 A4 (in), 13 OE4 (in), 14 VCC (power)

## MCP130T-300I/TT
designator U?, comment Part Number: MCP130T-300I/TT  Supplier Part Number 1: MCP130T-300I/TTDKR-ND
Resets microcontroller during power lossble; Vendor: Microchip; Built_By: EMA_Jessica; Min Supply Voltage: 1V; Max Supply Voltage: 5.5V; Nominal Supply Current: 45uA; Number of Voltages Monitored: 1; Overvoltage Threshold: 3V; Undervoltage Threshold: 2.85V; Operating Supply Current: 60uA; Reset: Active Low; Reset Timeout: 150ms; Accuracy: -5%; Watchdog Timer: No; Manufacturer_Part_Number: MCP130T-300I/TT; Copyright: Copyright (C) 2018 Accelerated Designs. All rights reserved; RefDes: RefDes; Type: DEV; Value: Value; Supplier 1: Digi-Key; Manufacturer: Microchip; Manufacturer Part Number: MCP130T-300I/TT; Stock 1: 10211; Pricing 1: 1=0.45, 25=0.37, 100=0.34 (USD); Mount: Surface Mount; Case/Package: SOT-23; Number of Pins: 3; Min Operating Temperature: -40°C; Max Operating Temperature: 85°C; Packaging: Tape and Reel; Package Quantity: 1; Threshold Voltage: 3V; Number of Elements: 1; Max Supply Current: 60uA; Termination: SMD/SMT; Max Reset Threshold Voltage: 3V; Min Reset Threshold Voltage: 2.85V; Quiescent Current: 45uA; Voltage: 3V; Length: 2.9mm; Height: 0.95mm; Width: 1.3mm; Radiation Hardening: No; REACH SVHC: No SVHC; Lead Free: Lead Free; ComponentLink1URL: https://www.alliedelec.com/m/d/4f6df3a49527f5f24303fd42bf5f8804.pdf?src-supplier=Allied+Electronics; ComponentLink1Description: https://www.alliedelec.com/m/d/4f6df3a49527f5f24303fd42bf5f8804.pdf?src-supplier=Allied+Electronics; ComponentLink2URL: http://www.farnell.com/datasheets/11603.pdf?src-supplier=Element14; ComponentLink2Description: http://www.farnell.com/datasheets/11603.pdf?src-supplier=Element14; ComponentLink3URL: http://www.microchip.com/mymicrochip/filehandler.aspx?ddocname=en011325&src-supplier=Digi-Key; ComponentLink3Description: http://www.microchip.com/mymicrochip/filehandler.aspx?ddocname=en011325&src-supplier=Digi-Key; ComponentLink4URL: http://ww1.microchip.com/downloads/jp/DeviceDoc/11184d.pdf?src-supplier=Avnet+Europe; ComponentLink4Description: http://ww1.microchip.com/downloads/jp/DeviceDoc/11184d.pdf?src-supplier=Avnet+Europe; ComponentLink5URL: http://www.microchip.com/mymicrochip/filehandler.aspx?ddocname=en023833&src-supplier=Digi-Key; ComponentLink5Description: http://www.microchip.com/mymicrochip/filehandler.aspx?ddocname=en023833&src-supplier=Digi-Key; ComponentLink6URL: http://ww1.microchip.com/downloads/jp/DeviceDoc/11184d.pdf?src-supplier=Avnet; ComponentLink6Description: http://ww1.microchip.com/downloads/jp/DeviceDoc/11184d.pdf?src-supplier=Avnet; ComponentLink7URL: https://www.distrelec.biz/Web/Downloads/_t/ds/mcp120_30_eng_tds.pdf?mime=application%2Fpdf&src-supplier=Distrelec; ComponentLink7Description: https://www.distrelec.biz/Web/Downloads/_t/ds/mcp120_30_eng_tds.pdf?mime=application%2Fpdf&src-supplier=Distrelec; ComponentLink8URL: http://datasheet.iiic.cc/microchip_technology/MCP130T-300I_TT.pdf?src-supplier=IIIC; ComponentLink8Description: http://datasheet.iiic.cc/microchip_technology/MCP130T-300I_TT.pdf?src-supplier=IIIC
footprint SOT-23_MC-M
pins: 1 *RST, 2 VDD, 3 VSS

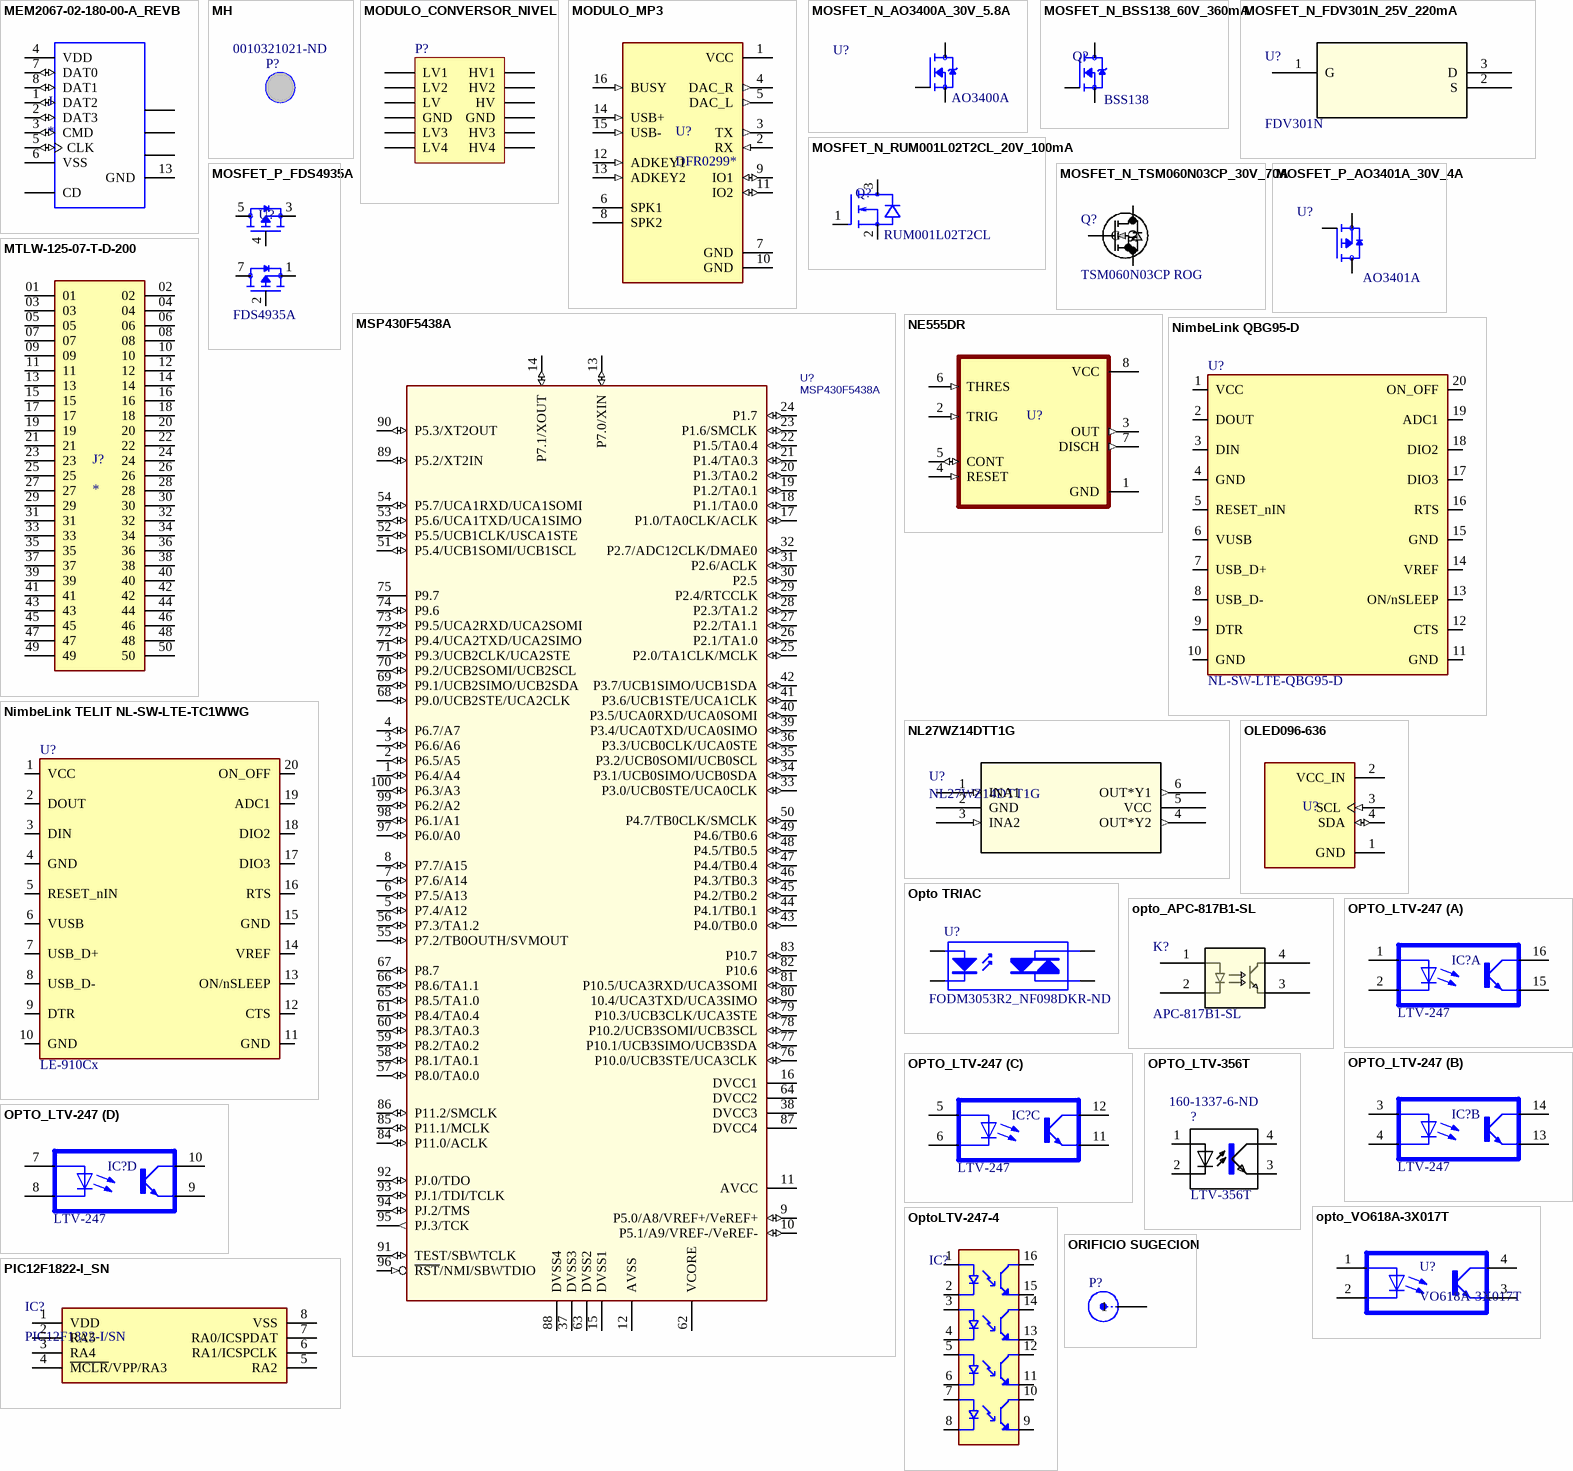
[diagram p6: symbols MEM2067-02-180-00-A_REVB to PIC12F1822-I_SN]

## MEM2067-02-180-00-A_REVB
designator J
8 Position Card Connector microSDâ„¢ Surface Mount, Right Angle Gold; MF: Global Connector Technology; MP: MEM2067-02-180-00-A; Package: None; Value: *; Price: None; SnapEDA_Link: https://www.snapeda.com/parts/MEM2067-02-180-00-A/Global%20Connector%20Technology/view-part/779218/?ref=snap; Availability: Unavailable
footprint 7MSDP-B0-1012 (Micro SD Card Socket)
pins: 1 DAT2 (io), 2 DAT3 (io), 3 CMD (io), 4 VDD (power), 5 CLK (io), 6 VSS (power), 7 DAT0 (io), 8 DAT1 (io), 9 CD, 10 GND, 11 GND, 12 GND, 13 GND

## MH
designator P?  Supplier Part Number 1: 0010321021-ND
Header, 2-Pin; Manufacturer: Molex; Number of Positions: 2; Max Voltage Rating (AC): 250V; Connector Type: Male Pin; Contact Resistance: 10mR; Gender: Male; Pitch: 5.08mm; LatestRevisionDate: 17-Jul-2002; LatestRevisionNote: Re-released for DXP Platform.; Publisher: Altium Limited; Supplier 1: Digi-Key; Manufacturer Part Number: 10-32-1021; Stock 1: 0; Mount: Through Hole; Color: Natural; Housing Color: Natural; Housing Material: Nylon; Contact Plating: Tin; Contact Material: Brass; Min Operating Temperature: -40°C; Max Operating Temperature: 105°C; Number of Rows: 1; Packaging: Bulk; Fastening Type: Friction; Termination: Solder; Orientation: Straight; Number of Contacts: 2; Length: 9.08mm; Depth: 11.4mm; Contact Mating Length: 0.419inch; ComponentLink1URL: http://www.mouser.com/ds/2/276/0010321021_PCB_HEADERS-131538.pdf?src-supplier=Mouser; ComponentLink1Description: http://www.mouser.com/ds/2/276/0010321021_PCB_HEADERS-131538.pdf?src-supplier=Mouser; ComponentLink2URL: http://uk.rs-online.com/webdocs/13c2/0900766b813c2c21.pdf?src-supplier=RSComponents; ComponentLink2Description: http://uk.rs-online.com/webdocs/13c2/0900766b813c2c21.pdf?src-supplier=RSComponents; ComponentLink3URL: https://www.molex.com/pdm_docs/sd/010321021_sd.pdf?src-supplier=Digi-Key; ComponentLink3Description: https://www.molex.com/pdm_docs/sd/010321021_sd.pdf?src-supplier=Digi-Key; ComponentLink4URL: http://www.molex.com/webdocs/datasheets/pdf/en-us/0010321021_PCB_HEADERS.pdf?src-supplier=Avnet+Europe; ComponentLink4Description: http://www.molex.com/webdocs/datasheets/pdf/en-us/0010321021_PCB_HEADERS.pdf?src-supplier=Avnet+Europe; ComponentLink5URL: http://www.molex.com/webdocs/datasheets/pdf/en-us/0010321021_PCB_HEADERS.pdf?src-supplier=Avnet; ComponentLink5Description: http://www.molex.com/webdocs/datasheets/pdf/en-us/0010321021_PCB_HEADERS.pdf?src-supplier=Avnet
footprint MH

## MODULO_CONVERSOR_NIVEL
designator P?
Header, 6-Pin, Dual row; LatestRevisionDate: 17-Jul-2002; LatestRevisionNote: Re-released for DXP Platform.; Publisher: Altium Limited
footprint HDR2X6_CONVERTER (Arduino Level Convertr)
pins: 1 LV1, 2 LV2, 3 LV, 4 GND, 5 LV3, 6 LV4, 7 HV1, 8 HV2, 9 HV, 10 GND, 11 HV3, 12 HV4

## MODULO_MP3
designator U?, comment DFR0299*  value DFR0299
Reproductor de MP3 Audio Arduino Placa de expansión para evaluación de plataforma; Digi_Key_Part_Number: 1738-1041-ND; Package: None; Price: 5,90; MP: DFR0299; Availability: Unavailable; ComponentLink1Description: DFPLAYER - A MINI MP3 PLAYER; ComponentLink1URL: https://www.digikey.com/es/products/detail/dfrobot/DFR0299/6588463?s=N4IgTCBcDaICIDEBKAGMBOdIC6BfIA; Link: https://www.digikey.com/es/products/detail/dfrobot/DFR0299/6588463?s=N4IgTCBcDaICIDEBKAGMBOdIC6BfIA
footprint MODULE_DFR0299
pins: 1 VCC (power), 2 RX (in), 3 TX (out), 4 DAC_R (out), 5 DAC_L (out), 6 SPK1, 7 GND (power), 8 SPK2, 9 IO1 (io), 10 GND (power), 11 IO2 (io), 12 ADKEY1 (in), 13 ADKEY2 (in), 14 USB+ (in), 15 USB- (in), 16 BUSY (in)

## MOSFET_N_AO3400A_30V_5.8A
designator U?, comment AO3400A
N-Channel 30 V 5.8A (Ta) 1.4W (Ta) Surface Mount SOT-23; Link: https://www.digikey.com/en/products/detail/umw/AO3400A/16705910; Digi-Key_Part_Number: 4518-AO3400ACT-ND; Price: 0,38; ComponentLink1Description: 30V 5.8A 35MR@10V,5.8A 1.4W 1.4V; ComponentLink1URL: https://www.digikey.com/en/products/detail/umw/AO3400A/16705910; Value: AO3400A
footprint SOT23-3_ONS-L
pins: 1 G, 2 S, 3 D

## MOSFET_N_BSS138_60V_360mA
designator Q?, comment value BSS138  (hidden comment: BSS138LCT-ND)
Canal N Montaje en superficie 50 V 200mA (Ta) 350mW (Ta) SOT-23-3; Digi_Key_Part_Number: BSS138LCT-ND; ComponentLink1Description: MOSFET N-CH 60V 360MA TO236AB; ComponentLink1URL: https://www.digikey.com/es/products/detail/nexperia-usa-inc/BSS138P-215/4162471; Link: https://www.digikey.com/es/products/detail/onsemi/BSS138L/5044761; Price: 0,15; LCSC Part: C75547; Mouser Part: 771-BSS138P215; Price JLCPCB: 0,03
footprint SOT95P240X111-3N
pins: 1 G, 2 S, 3 D

## MOSFET_N_FDV301N_25V_220mA
designator U?, comment FDV301N
Canal N Montaje en superficie 25 V 220mA (Ta) 350mW (Ta) SOT-23-3; Link: https://www.digikey.com.mx/es/products/detail/on-semiconductor/FDV301N/458851; Digi-Key_Part_Number: FDV301NCT-ND; ComponentLink1Description: FDV301N; ComponentLink1URL: https://www.digikey.com.mx/es/products/detail/on-semiconductor/FDV301N/458851; Price: 0,25; Value: FDV301N
footprint SOT23-3_ONS-L
pins: 1 G, 2 S, 3 D

## MOSFET_N_RUM001L02T2CL_20V_100mA
designator Q?, comment RUM001L02T2CL
N-Channel 20V 100mA _Ta_ 150mW _Ta_ Surface Mount VMT3; Digi-Key_Part_Number: RUM001L02T2CLCT-ND; Link: https://www.digikey.com/es/products/detail/RUM001L02T2CL/RUM001L02T2CLCT-ND/4571412?utm_campaign=buynow&utm_medium=aggregator&curr=usd&utm_source=octopart; ComponentLink1Description: MOSFET N-CH 20V 100MA VMT3; ComponentLink1URL: https://www.digikey.com/es/products/detail/rohm-semiconductor/RUM001L02T2CL/4004581?s=N4IgTCBcDaIEoFUCyAGFBGAMisAVMAwpiALoC%2BQA; Price: 0,30; Value: RUM001L02T2CL
footprint SOTFL3P40_120X120X55L30X32N
pins: 1 G, 2 S, 3 D

## MOSFET_N_TSM060N03CP_30V_70A
designator Q?, comment TSM060N03CP ROG
N-Channel 30 V 70A (Tc) 54W (Tc) Surface Mount TO-252 (DPAK); Digi_Key_Part_Number: TSM060N03CPROGCT-ND; ComponentLink1Description: MOSFET N-CHANNEL 30V 70A TO252; ComponentLink1URL: https://www.digikey.com/en/products/detail/taiwan-semiconductor-corporation/tsm060n03cp-rog/7360077; Link: https://www.digikey.com/en/products/detail/taiwan-semiconductor-corporation/tsm060n03cp-rog/7360077; Price: 0,97; LCSC Part: C3281289; Mouser Part: 821-TSM060N03CPROG; Price JLCPCB: 0,12; Value: TSM060N03CP ROG
footprint TO252_TSM060_TWS-L
pins: 1 G, 2 D, 3 S

## MOSFET_P_AO3401A_30V_4A
designator U?, comment AO3401A
P-Channel 30 V 4A (Ta) 1.4W (Ta) Surface Mount SOT-23-3; Digi_Key_Part_Number: 785-1001-1-ND; Link: https://www.digikey.com/en/products/detail/alpha-omega-semiconductor-inc/AO3401A/1855773; Price: 0,33; ComponentLink1Description: MOSFET P-CH 30V 4A SOT23-3L; ComponentLink1URL: https://www.digikey.com/en/products/detail/alpha-omega-semiconductor-inc/AO3401A/1855773; Value: AO3401A
footprint SOT23-3_ONS-L
pins: 1 G, 2 S, 3 D

## MOSFET_P_FDS4935A
designator U?, comment FDS4935A
MOSFET - Arreglos 30V 7A 900mW Montaje en superficie 8-SOIC; Digi_Key_Part_Number: FDS4935ACT-ND; ComponentLink1Description: MOSFET 2P-CH 30V 7A 8SOIC; ComponentLink1URL: https://www.digikey.com/es/products/detail/onsemi/FDS4935A/965321?s=N4IgTCBcDaIGYBMDOAWAnAZgKwEMQF0BfIA; Link: https://www.digikey.com/es/products/detail/onsemi/FDS4935A/965321?s=N4IgTCBcDaIGYBMDOAWAnAZgKwEMQF0BfIA; Price: 1,26; LCSC Part: C236903; Mouser Part: 512-FDS4935A; Price JLCPCB: 0,88; Value: FDS4935A
footprint SO-8_ONS-L
pins: 1 S2, 2 G2, 3 S, 4 G, 5 D, 6 D, 7 D2, 8 D2